# Altium footprint library QFN.PcbLib: 27 footprints (part 2 of 2)
Each footprint in its own frame and in the unit in brackets; x right, y up, seen from the top. Pads: shape width x height; smd on the part's side, far side on the other; paste and mask are expansions set on the pad; w line width, h text height; cw(c..) or ccw(c..) is an arc to the next point about the centre after c.
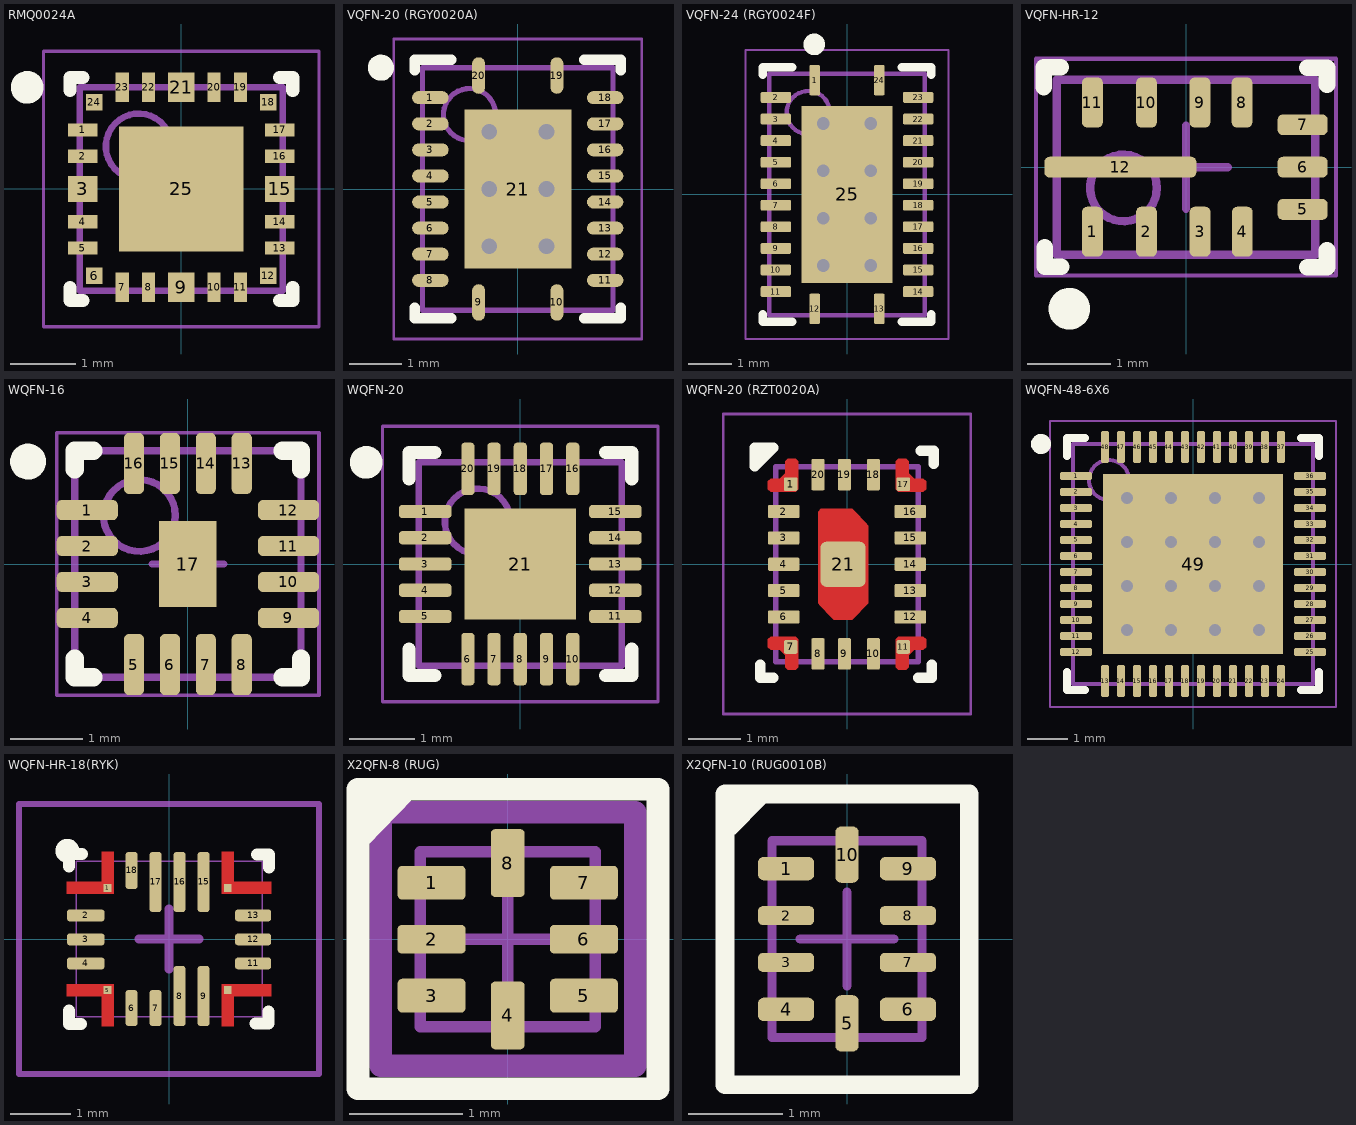
[diagram p1: the footprints below, top view; thin cyan lines are the x and y axes]

## RMQ0024A [mm] "QFN, 24-Leads, Body 3,00x3,00mm, Pitch 0,40mm, Thermal Pad 1,90x1,90mm, IPC Medium Density"
height 0.8
pads (25):
  rect 0.45x0.2 smd mask+0.05: 1(-1.5,0.9) 2(-1.5,0.5) 4(-1.5,-0.5) 5(-1.5,-0.9) 13(1.5,-0.9) 14(1.5,-0.5) 16(1.5,0.5) 17(1.5,0.9)
  rect 0.45x0.4 smd mask+0.05: 3(-1.5,0) 15(1.5,0)
  rect 0.25x0.25 smd mask+0.05: 6(-1.325,-1.325) 12(1.325,-1.325) 18(1.325,1.325) 24(-1.325,1.325)
  rect 0.2x0.45 smd mask+0.05: 7(-0.9,-1.5) 8(-0.5,-1.5) 10(0.5,-1.5) 11(0.9,-1.5) 19(0.9,1.55) 20(0.5,1.55) 22(-0.5,1.55) 23(-0.9,1.55)
  rect 0.4x0.45 smd mask+0.05: 9(0,-1.5) 21(0,1.55)
  rect 1.9x1.9 smd mask+0.05: 25(0,0)
Top Overlay:
  circle w0.25: c-2.35,1.55 r0.125
  lines w0.2: -1.7,-1.5 -1.7,-1.7 -1.5,-1.7 ; -1.7,1.5 -1.7,1.7 -1.5,1.7 ; 1.5,-1.7 1.7,-1.7 1.7,-1.5 ; 1.5,1.7 1.7,1.7 1.7,1.5
Mechanical 13:
  circle w0.1: c-0.65,0.65 r0.5
  lines w0.1: -1.55,-1.55 -1.55,1.55 1.55,1.55 1.55,-1.55 -1.55,-1.55
Mechanical 15:
  lines w0.05: -2.1,-2.1 -2.1,2.1 2.1,2.1 2.1,-2.1 -2.1,-2.1
  lines w0.1: -0.5,0 0.5,0 ; 0,-0.5 0,0.5
3D body "RMQ0024A.step": height 0.8, standoff 0, extent -1.56,-1.56 1.56,1.56

## VQFN-20 (RGY0020A) [mm] "VQFN, 20-Leads, Body 3.50x4.50mm, Pitch 1.50mm/0.50mm, Thermal Pad 2.05x3.05mm, IPC Medium Density"
height 1
pads (21):
  oval 0.7x0.25 smd mask+0.05: 1(-1.675,1.75) 2(-1.675,1.25) 3(-1.675,0.75) 4(-1.675,0.25) 5(-1.675,-0.25) 6(-1.675,-0.75) 7(-1.675,-1.25) 8(-1.675,-1.75) 11(1.675,-1.75) 12(1.675,-1.25) 13(1.675,-0.75) 14(1.675,-0.25) 15(1.675,0.25) 16(1.675,0.75) 17(1.675,1.25) 18(1.675,1.75)
  oval 0.25x0.7 smd mask+0.05: 9(-0.75,-2.175) 10(0.75,-2.175) 19(0.75,2.175) 20(-0.75,2.175)
  rect 2.05x3.05 smd mask+0.05: 21(0,0)
via 0.55,-1.1 diameter 0.6 hole 0.3
via -0.55,-1.1 diameter 0.6 hole 0.3
via 0.55,0 diameter 0.6 hole 0.3
via -0.55,0 diameter 0.6 hole 0.3
via 0.55,1.1 diameter 0.6 hole 0.3
via -0.55,1.1 diameter 0.6 hole 0.3
Top Overlay:
  circle w0.25: c-2.625,2.325 r0.125
  lines w0.2: -1.975,-2.275 -1.975,-2.475 -1.275,-2.475 ; -1.975,2.275 -1.975,2.475 -1.275,2.475 ; 1.275,-2.475 1.975,-2.475 1.975,-2.275 ; 1.275,2.475 1.975,2.475 1.975,2.275
Mechanical 13:
  circle w0.1: c-0.925,1.425 r0.5
  lines w0.1: -1.825,-2.325 1.825,-2.325 1.825,2.325 -1.825,2.325 -1.825,-2.325
Mechanical 15:
  lines w0.05: -2.375,-2.875 2.375,-2.875 2.375,2.875 -2.375,2.875 -2.375,-2.875
  lines w0.1: -0.5,0 0.5,0 ; 0,-0.5 0,0.5
3D body "VQFN-20 (RGY0020A).step": height 1, standoff 0, extent -1.875,-2.375 1.875,2.375

## VQFN-24 (RGY0024F) [mm] "VQFN, 24-Leads, Body 3.50x5.50mm, Pitch 1.50mm/0.50mm, Thermal Pad 2.10x4.10mm, IPC Medium Density"
height 1
pads (25):
  rrect25% 0.25x0.7 smd mask+0.05: 1(-0.75,2.65) 12(-0.75,-2.65) 13(0.75,-2.65) 24(0.75,2.65)
  rrect25% 0.7x0.25 smd mask+0.05: 2(-1.65,2.25) 3(-1.65,1.75) 4(-1.65,1.25) 5(-1.65,0.75) 6(-1.65,0.25) 7(-1.65,-0.25) 8(-1.65,-0.75) 9(-1.65,-1.25) 10(-1.65,-1.75) 11(-1.65,-2.25) 14(1.65,-2.25) 15(1.65,-1.75) 16(1.65,-1.25) 17(1.65,-0.75) 18(1.65,-0.25) 19(1.65,0.25) 20(1.65,0.75) 21(1.65,1.25) 22(1.65,1.75) 23(1.65,2.25)
  rect 2.1x4.1 smd mask+0.05: 25(0,0)
via -0.55,1.65 diameter 0.6 hole 0.3
via 0.55,1.65 diameter 0.6 hole 0.3
via -0.55,0.55 diameter 0.6 hole 0.3
via 0.55,0.55 diameter 0.6 hole 0.3
via -0.55,-0.55 diameter 0.6 hole 0.3
via 0.55,-0.55 diameter 0.6 hole 0.3
via -0.55,-1.65 diameter 0.6 hole 0.3
via 0.55,-1.65 diameter 0.6 hole 0.3
Top Overlay:
  circle w0.25: c-0.76,3.48 r0.125
  lines w0.2: -1.95,-2.775 -1.95,-2.95 -1.275,-2.95 ; -1.95,2.775 -1.95,2.95 -1.275,2.95 ; 1.275,-2.95 1.95,-2.95 1.95,-2.775 ; 1.275,2.95 1.95,2.95 1.95,2.775
Mechanical 13:
  circle w0.1: c-0.9,1.9 r0.5
  lines w0.1: -1.8,-2.8 -1.8,2.8 1.8,2.8 1.8,-2.8 -1.8,-2.8
Mechanical 15:
  lines w0.05: -2.35,-3.35 -2.35,3.35 2.35,3.35 2.35,-3.35 -2.35,-3.35
  lines w0.1: -0.5,0 0.5,0 ; 0,-0.5 0,0.5
3D body "VQFN-24 (RGY0024F).step": height 1, standoff 0, extent -1.85,-2.85 1.85,2.85

## VQFN-HR-12 [mm] "VQFN-HR, 12-Leads, Body 2,00x3,00mm, Pitch 0,50mm, IPC Medium Density"
height 1
pads (12):
  rrect50% 0.25x0.6 smd mask+0.05: 1(-1.123,-0.775) 2(-0.474,-0.775) 3(0.169,-0.775) 4(0.676,-0.775) 8(0.672,0.775) 9(0.167,0.775) 10(-0.474,0.775) 11(-1.123,0.775)
  rrect50% 0.6x0.25 smd mask+0.05: 5(1.4,-0.508) 6(1.4,0) 7(1.4,0.508)
  rrect50% 1.825x0.25 smd mask+0.05: 12(-0.788,0)
Top Overlay:
  circle w0.25: c-1.4,-1.7 r0.125
  lines w0.2: -1.706,0.962 -1.706,1.199 -1.504,1.199 ; -1.696,-0.96 -1.696,-1.197 -1.495,-1.197 ; 1.456,-1.201 1.692,-1.201 1.692,-1 ; 1.456,1.191 1.692,1.191 1.692,0.99
Mechanical 13:
  circle w0.1: c-0.75,-0.25 r0.4
  lines w0.1: -1.55,-1.05 1.55,-1.05 1.55,1.05 -1.55,1.05 -1.55,-1.05
Mechanical 15:
  lines w0.05: -1.8,-1.3 1.8,-1.3 1.8,1.3 -1.8,1.3 -1.8,-1.3
  lines w0.1: -0.5,0 0.5,0 ; 0,-0.5 0,0.5
3D body "User Library-vqfn_hr_12.step": height 0.8, standoff -0.01, extent -1.524,-1.02 1.516,1.02

## WQFN-16 [mm] "PQFN, 16-Leads, Body 3,00x3,00mm, Pitch 0,50mm, Thermal Pad 0.8x1.2mm, IPC Medium Density"
height 0.8
pads (17):
  rrect50% 0.85x0.28 smd mask+0.05: 1(-1.4,0.75) 2(-1.4,0.25) 3(-1.4,-0.25) 4(-1.4,-0.75) 9(1.4,-0.75) 10(1.4,-0.25) 11(1.4,0.25) 12(1.4,0.75)
  rrect50% 0.28x0.85 smd mask+0.05: 5(-0.75,-1.4) 6(-0.25,-1.4) 7(0.25,-1.4) 8(0.75,-1.4) 13(0.75,1.4) 14(0.25,1.4) 15(-0.25,1.4) 16(-0.75,1.4)
  rect 0.8x1.2 smd mask+0.05: 17(0,0)
Top Overlay:
  circle w0.25: c-2.225,1.425 r0.125
  lines w0.254: -1.575,-1.317 -1.575,-1.575 -1.317,-1.575 ; -1.575,1.317 -1.575,1.575 -1.317,1.575 ; 1.317,-1.575 1.575,-1.575 1.575,-1.317 ; 1.317,1.575 1.575,1.575 1.575,1.317
Mechanical 13:
  circle w0.1: c-0.675,0.675 r0.5
  lines w0.1: -1.575,-1.575 -1.575,1.575 1.575,1.575 1.575,-1.575 -1.575,-1.575
Mechanical 15:
  lines w0.05: -1.825,-1.825 -1.825,1.825 1.825,1.825 1.825,-1.825 -1.825,-1.825
  lines w0.1: -0.5,0 0.5,0 ; 0,-0.5 0,0.5
3D body "PWQFN-16.step": height 0.8, standoff 0, extent -1.575,-1.575 1.575,1.575

## WQFN-20 [mm] "QFN, 20-Leads, Body 3.00x3.00mm, Pitch 0.40mm, Thermal Pad 1.70x1.70mm, IPC Medium Density"
height 0.8
pads (21):
  rrect50% 0.8x0.2 smd mask+0.05: 1(-1.45,0.8) 2(-1.45,0.4) 3(-1.45,0) 4(-1.45,-0.4) 5(-1.45,-0.8) 11(1.45,-0.8) 12(1.45,-0.4) 13(1.45,0) 14(1.45,0.4) 15(1.45,0.8)
  rrect50% 0.2x0.8 smd mask+0.05: 6(-0.8,-1.45) 7(-0.4,-1.45) 8(0,-1.45) 9(0.4,-1.45) 10(0.8,-1.45) 16(0.8,1.45) 17(0.4,1.45) 18(0,1.45) 19(-0.4,1.45) 20(-0.8,1.45)
  rect 1.7x1.7 smd mask+0.05: 21(0,0)
Top Overlay:
  circle w0.25: c-2.35,1.55 r0.125
  lines w0.2: -1.7,-1.3 -1.7,-1.7 -1.3,-1.7 ; -1.7,1.3 -1.7,1.7 -1.3,1.7 ; 1.3,-1.7 1.7,-1.7 1.7,-1.3 ; 1.3,1.7 1.7,1.7 1.7,1.3
Mechanical 13:
  circle w0.1: c-0.65,0.65 r0.5
  lines w0.1: -1.55,-1.55 1.55,-1.55 1.55,1.55 -1.55,1.55 -1.55,-1.55
Mechanical 15:
  lines w0.05: -2.1,-2.1 2.1,-2.1 2.1,2.1 -2.1,2.1 -2.1,-2.1
  lines w0.1: -0.5,0 0.5,0 ; 0,-0.5 0,0.5
3D body "WQFN-20.step": height 0.8, standoff 0, extent -1.56,-1.56 1.56,1.56

## WQFN-20 (RZT0020A) [mm] "WQFN-FCRLF - 0.7 mm max height"
height 0.7
pads (21):
  rrect25% 0.259x0.259 smd paste+0 mask+0.05: 1(-1.069,1.519) 7(-1.069,-1.569) 11(1.069,-1.569) 17(1.069,1.519)
  rrect25% 0.6x0.25 smd paste+0 mask+0.05: 2(-1.2,1) 3(-1.2,0.5) 4(-1.2,0) 5(-1.2,-0.5) 6(-1.2,-1) 12(1.2,-1) 13(1.2,-0.5) 14(1.2,0) 15(1.2,0.5) 16(1.2,1)
  rrect25% 0.25x0.6 smd paste+0 mask+0.05: 8(-0.55,-1.7) 9(-0.05,-1.7) 10(0.5,-1.7) 18(0.5,1.7) 19(-0.05,1.7) 20(-0.55,1.7)
  rrect25% 0.855x0.855 smd paste-0.415 mask+0: 21(-0.075,0)
Top Layer:
  region: -0.975,1.375 -1.45,1.375 -1.5,1.425 -1.5,1.575 -1.45,1.625 -1.275,1.625 -1.175,1.725 -1.175,1.95 -1.125,2 -0.975,2 -0.925,1.95 -0.925,1.425
  region: -0.975,-1.375 -1.45,-1.375 -1.5,-1.425 -1.5,-1.575 -1.45,-1.625 -1.275,-1.625 -1.175,-1.725 -1.175,-1.95 -1.125,-2 -0.975,-2 -0.925,-1.95 -0.925,-1.425
  region: 0.975,-1.375 1.45,-1.375 1.5,-1.425 1.5,-1.575 1.45,-1.625 1.275,-1.625 1.175,-1.725 1.175,-1.95 1.125,-2 0.975,-2 0.925,-1.95 0.925,-1.425
  region: 0.975,1.375 1.45,1.375 1.5,1.425 1.5,1.575 1.45,1.625 1.275,1.625 1.175,1.725 1.175,1.95 1.125,2 0.975,2 0.925,1.95 0.925,1.425
  region: -0.55,-0.735 -0.55,1 -0.5,1.05 0.099,1.05 0.149,1.001 0.354,0.785 0.4,0.735 0.4,-0.735 0.354,-0.785 0.149,-1.001 0.099,-1.05 -0.249,-1.05 -0.299,-1.001 -0.504,-0.785
Top Overlay:
  lines w0.2: -1.645,-1.905 -1.645,-2.155 -1.395,-2.155 ; -1.575,2.035 -1.75,2.21 ; 1.355,-2.155 1.605,-2.155 1.605,-1.905 ; 1.395,2.155 1.645,2.155 1.645,1.905 ; -1.75,2.21 -1.75,1.859 -1.4,2.21 -1.75,2.21
Top Paste:
  region: 0.325,-0.135 -0.475,-0.135 -0.525,-0.185 -0.525,-0.718 -0.479,-0.768 -0.279,-0.993 -0.229,-1.04 0.079,-1.04 0.129,-0.993 0.329,-0.768 0.375,-0.718 0.375,-0.185
  region: 0.325,0.065 -0.475,0.065 -0.525,0.115 -0.525,0.99 -0.475,1.04 0.079,1.04 0.129,0.993 0.329,0.768 0.375,0.718 0.375,0.115
  region: -0.975,1.375 -1.45,1.375 -1.5,1.425 -1.5,1.575 -1.45,1.625 -1.275,1.625 -1.175,1.725 -1.175,1.95 -1.125,2 -0.975,2 -0.925,1.95 -0.925,1.425
  region: -1.5,-1.425 -1.45,-1.375 -0.975,-1.375 -0.925,-1.425 -0.925,-1.95 -0.975,-2 -1.125,-2 -1.175,-1.95 -1.175,-1.725 -1.275,-1.625 -1.45,-1.625 -1.5,-1.575
  region: 0.975,-1.375 1.45,-1.375 1.5,-1.425 1.5,-1.575 1.45,-1.625 1.275,-1.625 1.175,-1.725 1.175,-1.95 1.125,-2 0.975,-2 0.925,-1.95 0.925,-1.425
  region: 1.5,1.425 1.45,1.375 0.975,1.375 0.925,1.425 0.925,1.95 0.975,2 1.125,2 1.175,1.95 1.175,1.725 1.275,1.625 1.45,1.625 1.5,1.575
Top Solder:
  region: -0.975,1.375 -1.45,1.375 -1.5,1.425 -1.5,1.575 -1.45,1.625 -1.275,1.625 -1.175,1.725 -1.175,1.95 -1.125,2 -0.975,2 -0.925,1.95 -0.925,1.425
  region: -1.5,-1.425 -1.45,-1.375 -0.975,-1.375 -0.925,-1.425 -0.925,-1.95 -0.975,-2 -1.125,-2 -1.175,-1.95 -1.175,-1.725 -1.275,-1.625 -1.45,-1.625 -1.5,-1.575
  region: 0.975,-1.375 1.45,-1.375 1.5,-1.425 1.5,-1.575 1.45,-1.625 1.275,-1.625 1.175,-1.725 1.175,-1.95 1.125,-2 0.975,-2 0.925,-1.95 0.925,-1.425
  region: 1.5,1.425 1.45,1.375 0.975,1.375 0.925,1.425 0.925,1.95 0.975,2 1.125,2 1.175,1.95 1.175,1.725 1.275,1.625 1.45,1.625 1.5,1.575
  region: -0.55,-0.735 -0.55,1 -0.5,1.05 0.099,1.05 0.149,1.001 0.354,0.785 0.4,0.735 0.4,-0.735 0.354,-0.785 0.149,-1.001 0.099,-1.05 -0.249,-1.05 -0.299,-1.001 -0.504,-0.785
Mechanical 13:
  lines w0.1: -1.35,-1.85 1.35,-1.85 1.35,1.85 -1.35,1.85 -1.35,-1.85
Mechanical 15:
  lines w0.05: -2.35,-2.84 2.35,-2.84 2.35,2.85 -2.35,2.85 -2.35,-2.84
3D body "RZT0020A.stp": height 0.71, standoff 0.01, extent -1.3,-1.8 1.3,1.8

## WQFN-48-6X6 [mm]
height 0.8
pads (49):
  rrect50% 0.8x0.2 smd mask+0.05: 1(-2.925,2.2) 2(-2.925,1.8) 3(-2.925,1.4) 4(-2.925,1) 5(-2.925,0.6) 6(-2.925,0.2) 7(-2.925,-0.2) 8(-2.925,-0.6) 9(-2.925,-1) 10(-2.925,-1.4) 11(-2.925,-1.8) 12(-2.925,-2.2) 25(2.925,-2.2) 26(2.925,-1.8) 27(2.925,-1.4) 28(2.925,-1) 29(2.925,-0.6) 30(2.925,-0.2) 31(2.925,0.2) 32(2.925,0.6) 33(2.925,1) 34(2.925,1.4) 35(2.925,1.8) 36(2.925,2.2)
  rrect50% 0.2x0.8 smd mask+0.05: 13(-2.2,-2.925) 14(-1.8,-2.925) 15(-1.4,-2.925) 16(-1,-2.925) 17(-0.6,-2.925) 18(-0.2,-2.925) 19(0.2,-2.925) 20(0.6,-2.925) 21(1,-2.925) 22(1.4,-2.925) 23(1.8,-2.925) 24(2.2,-2.925) 37(2.2,2.925) 38(1.8,2.925) 39(1.4,2.925) 40(1,2.925) 41(0.6,2.925) 42(0.2,2.925) 43(-0.2,2.925) 44(-0.6,2.925) 45(-1,2.925) 46(-1.4,2.925) 47(-1.8,2.925) 48(-2.2,2.925)
  rect 4.5x4.5 smd mask+0.05: 49(0,0)
via 1.65,-1.65 diameter 0.5 hole 0.3
via 0.55,-1.65 diameter 0.5 hole 0.3
via -0.55,-1.65 diameter 0.5 hole 0.3
via -1.65,-1.65 diameter 0.5 hole 0.3
via 1.65,-0.55 diameter 0.5 hole 0.3
via 0.55,-0.55 diameter 0.5 hole 0.3
via -0.55,-0.55 diameter 0.5 hole 0.3
via -1.65,-0.55 diameter 0.5 hole 0.3
via 1.65,0.55 diameter 0.5 hole 0.3
via 0.55,0.55 diameter 0.5 hole 0.3
via -0.55,0.55 diameter 0.5 hole 0.3
via -1.65,0.55 diameter 0.5 hole 0.3
via 1.65,1.65 diameter 0.5 hole 0.3
via 0.55,1.65 diameter 0.5 hole 0.3
via -0.55,1.65 diameter 0.5 hole 0.3
via -1.65,1.65 diameter 0.5 hole 0.3
Top Overlay:
  circle w0.25: c-3.8,3 r0.125
  lines w0.2: -3.15,-2.7 -3.15,-3.15 -2.7,-3.15 ; -3.15,2.7 -3.15,3.15 -2.7,3.15 ; 2.7,-3.15 3.15,-3.15 3.15,-2.7 ; 2.7,3.15 3.15,3.15 3.15,2.7
Mechanical 13:
  circle w0.1: c-2.1,2.1 r0.5
  lines w0.1: -3,-3 3,-3 3,3 -3,3 -3,-3
Mechanical 15:
  lines w0.05: -3.575,-3.575 3.575,-3.575 3.575,3.575 -3.575,3.575 -3.575,-3.575
  lines w0.1: -0.5,0 0.5,0 ; 0,-0.5 0,0.5
3D body "WQFN-48-6X6.step": height 0.8, standoff 0, extent -3.05,-3.05 3.05,3.05

## WQFN-HR-18(RYK) [mm]
height 1
pads (18):
  rect 0.127x0.127 smd paste-0.064 mask+0.05: 1(-1.025,0.85) 5(-1.025,-0.85) 10(0.975,-0.85) 14(0.975,0.85)
  rrect50% 0.625x0.2 smd paste-0.312 mask+0.05: 2(-1.388,0.393) 3(-1.388,-0.007) 4(-1.388,-0.407)
  rrect50% 0.2x0.6 smd paste-0.3 mask+0.05: 6(-0.625,-1.15) 7(-0.225,-1.15)
  rrect50% 0.2x1 smd paste-0.5 mask+0.05: 8(0.175,-0.95) 9(0.575,-0.95) 15(0.575,0.95) 16(0.175,0.95) 17(-0.225,0.95)
  rrect50% 0.6x0.2 smd paste-0.3 mask+0.05: 11(1.4,-0.407) 12(1.4,-0.007) 13(1.4,0.393)
  rrect50% 0.2x0.619 smd mask+0.05: 18(-0.625,1.141)
Top Layer:
  region: 1.075,1.45 0.875,1.45 0.875,0.75 1.7,0.75 1.7,0.95 1.075,0.95
  region: 1.075,-1.45 0.875,-1.45 0.875,-0.75 1.7,-0.75 1.7,-0.95 1.075,-0.95
  region: -1.125,-0.95 -1.701,-0.95 -1.701,-0.75 -0.925,-0.75 -0.925,-1.45 -1.125,-1.45
  region: -1.125,0.95 -1.701,0.95 -1.701,0.75 -0.925,0.75 -0.925,1.45 -1.125,1.45
Top Overlay:
  circle w0.2: c-1.694,1.468 r0.1
  lines w0.2: -1.667,-1.193 -1.667,-1.412 -1.465,-1.412 ; -1.666,1.21 -1.666,1.412 -1.448,1.412 ; 1.44,-1.41 1.659,-1.41 1.659,-1.207 ; 1.465,1.411 1.668,1.411 1.668,1.193
Top Paste:
  region: 1.075,1.45 0.875,1.45 0.875,0.75 1.7,0.75 1.7,0.95 1.075,0.95
  region: 1.075,-1.45 0.875,-1.45 0.875,-0.75 1.7,-0.75 1.7,-0.95 1.075,-0.95
  region: -1.125,-0.95 -1.701,-0.95 -1.701,-0.75 -0.925,-0.75 -0.925,-1.45 -1.125,-1.45
  region: -1.125,0.95 -1.701,0.95 -1.701,0.75 -0.925,0.75 -0.925,1.45 -1.125,1.45
Top Solder:
  region: 1.075,-1.45 0.875,-1.45 0.875,-0.75 1.7,-0.75 1.7,-0.95 1.075,-0.95
  region: -1.125,-0.95 -1.701,-0.95 -1.701,-0.75 -0.925,-0.75 -0.925,-1.45 -1.125,-1.45
  region: -1.125,0.95 -1.701,0.95 -1.701,0.75 -0.925,0.75 -0.925,1.45 -1.125,1.45
  region: 1.075,1.45 0.875,1.45 0.875,0.75 1.7,0.75 1.7,0.95 1.075,0.95
Mechanical 13:
  lines w0.025: -1.549,-1.295 -1.549,1.295 1.549,1.295 1.549,-1.295 -1.549,-1.295
Mechanical 15:
  lines w0.1: -2.499,-2.251 -2.499,0.143 -2.499,2.251 2.497,2.251 2.497,0.651 2.497,-2.251 -1.287,-2.251 -2.499,-2.251
  lines w0.15: -0.5,0 0.5,0 ; 0,-0.5 0,0.5
3D body "RYK0018A.stp": height 0.8, standoff 0, extent -1.5,-1.25 1.5,1.25

## X2QFN-8 (RUG) [mm] "X2QFN, 8-Leads, Body 1.50x1.50mm, Pitch 0.50mm, IPC Medium Density"
height 0.4
pads (8):
  rrect25% 0.6x0.3 smd mask+0.05: 1(-0.675,0.5) 3(-0.675,-0.5) 5(0.675,-0.5) 7(0.675,0.5)
  rrect25% 0.6x0.25 smd mask+0.05: 2(-0.675,0) 6(0.675,0)
  rrect25% 0.3x0.6 smd mask+0.05: 4(0,-0.675) 8(0,0.675)
Top Overlay:
  lines w0.2: -1.311,0.901 -0.913,1.313 ; -1.298,1.059 -1.09,1.274 ; -1.327,-1.323 1.331,-1.323 1.331,1.329 -1.327,1.329 -1.327,-1.323
Mechanical 13:
  lines w0.1: -0.775,-0.775 -0.775,0.775 0.775,0.775 0.775,-0.775 -0.775,-0.775
  lines w0.2: -1.125,-1.12 1.128,-1.12 1.128,1.126 -1.125,1.126 -1.125,-1.12
Mechanical 15:
  lines w0.05: -1.325,-1.325 -1.325,1.325 1.325,1.325 1.325,-1.325 -1.325,-1.325
  lines w0.1: -0.5,0 0.5,0 ; 0,-0.5 0,0.5
3D body "X2QFN-8 (RUG).step": height 0.4, standoff 0, extent -0.825,-0.825 0.825,0.825

## X2QFN-10 (RUG0010B) [mm] "X2QFN, 10-Leads, Body 1.50x2.00mm, Pitch 0.50mm, IPC Medium Density"
height 0.4
pads (10):
  rrect50% 0.6x0.25 smd mask+0.05: 1(-0.65,0.75) 4(-0.65,-0.75) 6(0.65,-0.75) 9(0.65,0.75)
  rrect50% 0.6x0.2 smd mask+0.05: 2(-0.65,0.25) 3(-0.65,-0.25) 7(0.65,-0.25) 8(0.65,0.25)
  rrect50% 0.25x0.6 smd mask+0.05: 5(0,-0.9) 10(0,0.9)
Top Overlay:
  lines w0.2: -1.282,1.356 -1.136,1.502 -0.949,1.502 -1.263,1.189 ; -1.3,-1.554 -1.3,1.547 1.303,1.547 1.303,-1.554 -1.3,-1.554
Mechanical 13:
  lines w0.1: -0.8,-1.05 -0.8,1.05 0.8,1.05 0.8,-1.05 -0.8,-1.05
Mechanical 15:
  lines w0.05: -1.35,-1.6 -1.35,1.6 1.35,1.6 1.35,-1.6 -1.35,-1.6
  lines w0.1: -0.5,0 0.5,0 ; 0,-0.5 0,0.5
3D body "X2QFN-10 (RUG0010B).step": height 0.4, standoff 0, extent -0.85,-1.1 0.85,1.1